# EAGLE library part 2X3-PASSED (library CJ_Libz)
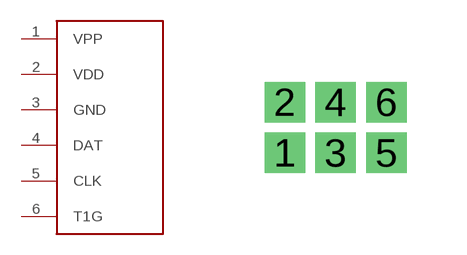
[diagram p5: symbol with the pads of 5PIN-1MM; footprint 5PIN-1MM]

Designator prefix -

## 2X3-PASSED  [5PIN-1MM]
1  VPP
2  VDD
3  GND
4  DAT
5  CLK
6  T1G

## Footprint 5PIN-1MM (pad centres in mm)
PCB Libraries Package
drill 0.508 pad 0.9 square: 1 0,0; 2 0,1.27; 3 1.27,0; 4 1.27,1.27; 5 2.54,0; 6 2.54,1.27